# Altium footprint library Buck.PcbLib: 58 footprints (part 3 of 4)
Each footprint in its own frame and in the unit in brackets; x right, y up, seen from the top. Pads: shape width x height; smd on the part's side, far side on the other; paste and mask are expansions set on the pad; w line width, h text height; cw(c..) or ccw(c..) is an arc to the next point about the centre after c.
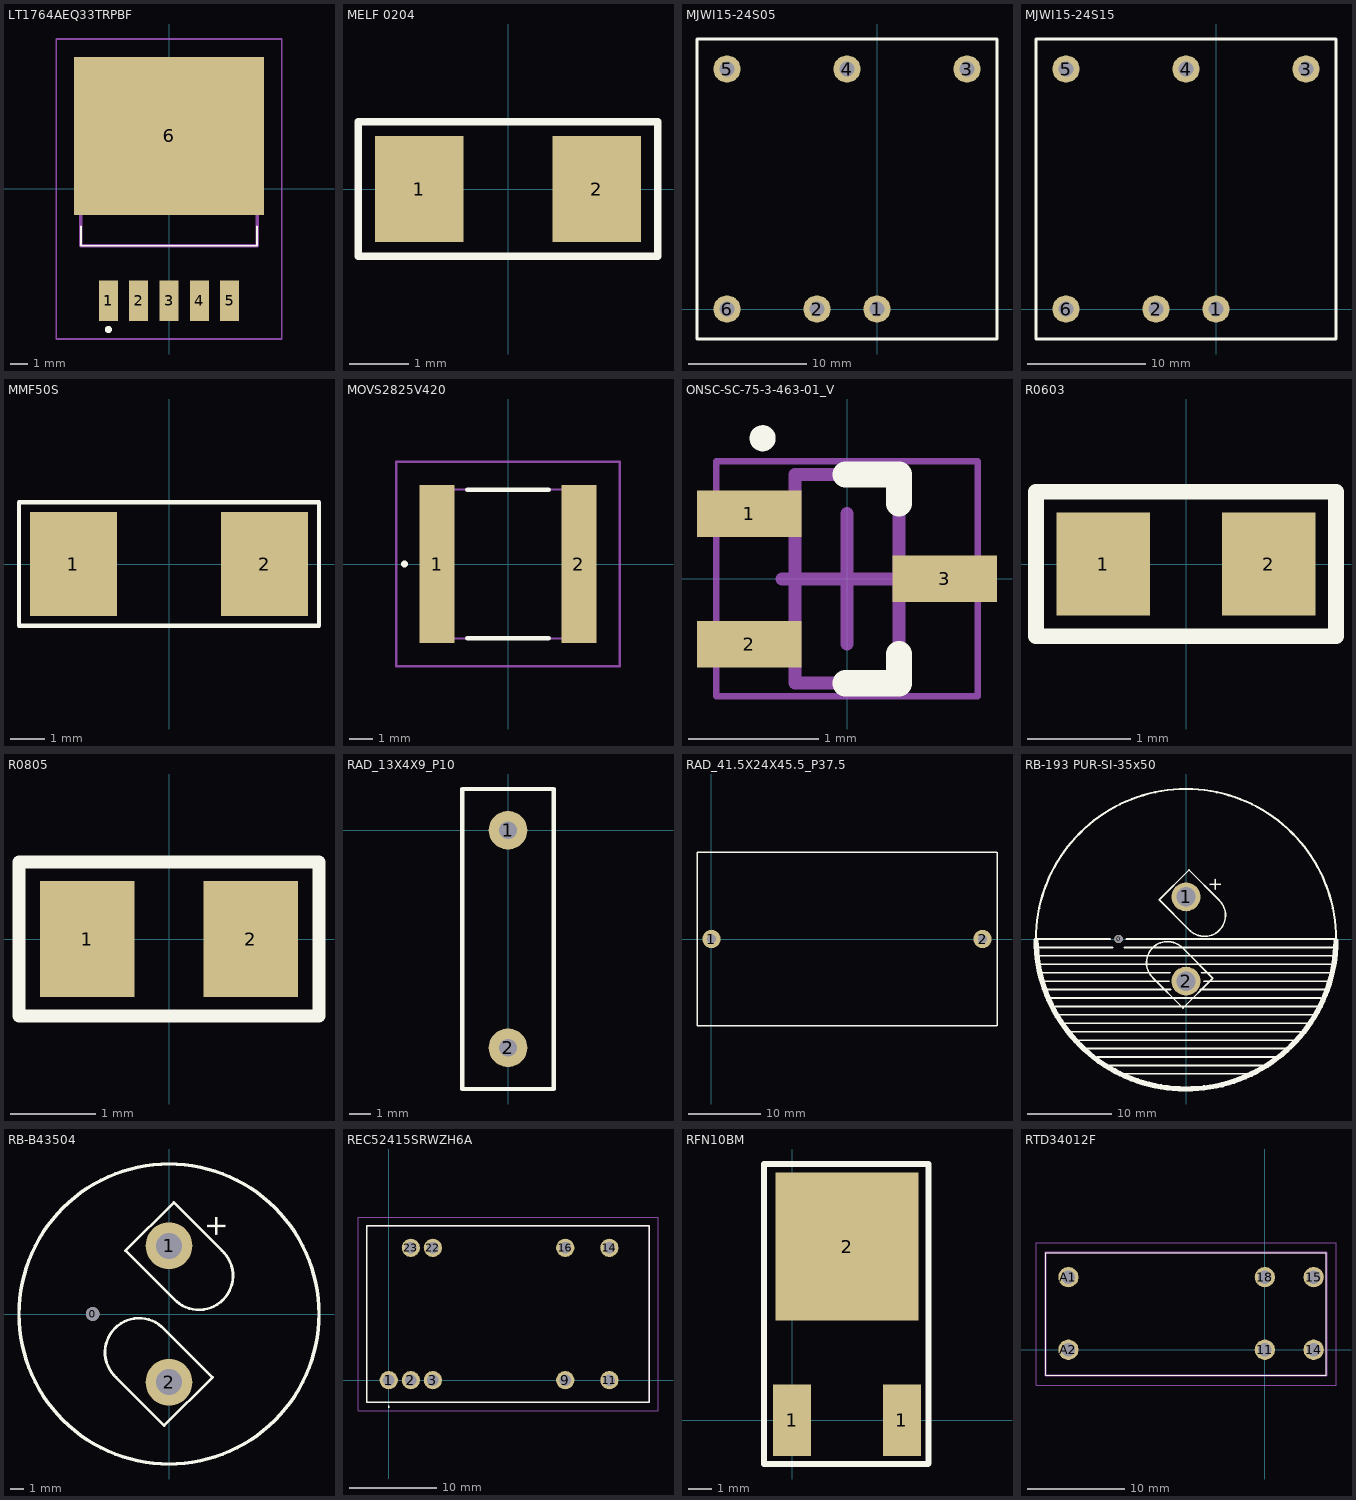
[diagram p2: the footprints below, top view; thin cyan lines are the x and y axes]

## LT1764AEQ33TRPBF [mil]
pads (6):
  rect 42.01x90 smd: 1(-134.02,-247.72) 2(-67.01,-247.72) 3(0,-247.72) 4(67.01,-247.72) 5(134.02,-247.72)
  rect 420x350 smd: 6(0,117.28)
Top Overlay:
  lines w3.94: -195,-82.72 -195,-122.09 -195,-125.98 195,-125.98 195,-82.72
  lines w7.87: -134.02,-315 cw(c-134.02,-311.06) -134.02,-307.13 cw(c-134.02,-311.06) -134.02,-315
Bottom Assembly:
  lines w3.94: -249.37,-332.09 249.37,-332.09 249.37,331.65 -249.37,331.65 -249.37,-332.09
Mechanical 15:
  lines w7.87: -195,-125.98 195,-125.98 195,232.24 -195,232.24 -195,-125.98

## MELF 0204 [mm]
height 13.8
pads (2):
  rect 1.5x1.8 smd: 1(-1.5,0) 2(1.5,0)
Top Overlay:
  lines w0.127: -2.54,-1.143 -2.54,1.143 2.54,1.143 2.54,-1.143 -2.54,-1.143
3D body "CMA02040X1209GB300.stp": height 1.4, standoff 0, extent -1.822,-0.7 1.778,0.7

## MJWI15-24S05 [mm]
pads (6):
  round 2.3 hole 1.3: 1(0,0) 2(-5.08,0) 3(7.62,20.32) 4(-2.54,20.32) 5(-12.7,20.32) 6(-12.7,0)
Top Overlay:
  lines w0.254: -15.24,-2.54 -15.24,22.86 10.16,22.86 10.16,-2.54 -15.24,-2.54

## MJWI15-24S15 [mm]
pads (6):
  round 2.3 hole 1.3: 1(0,0) 2(-5.08,0) 3(7.62,20.32) 4(-2.54,20.32) 5(-12.7,20.32) 6(-12.7,0)
Top Overlay:
  lines w0.254: -15.24,-2.54 10.16,-2.54 10.16,22.86 -15.24,22.86 -15.24,-2.54

## MMF50S [mm]
height 13.8
pads (2):
  rect 2.5x3 smd: 1(-2.75,0) 2(2.75,0)
Top Overlay:
  lines w0.127: -4.318,-1.778 -4.318,1.778 4.318,1.778 4.318,-1.778 -4.318,-1.778

## MOVS2825V420 [mm]
pads (2):
  rect 1.5x6.8 smd: 1(-3.05,0) 2(3.05,0)
Top Overlay:
  lines w0.2: -4.5,0 ccw(c-4.45,0) -4.4,0 ; -4.5,0 cw(c-4.45,0) -4.4,0 ; -4.5,0 ccw(c-4.45,0) -4.4,0 ; -1.75,-3.2 1.75,-3.2 -1.75,-3.2 ; -1.75,3.2 1.75,3.2 -1.75,3.2
Mechanical 15:
  lines w0.1: -3.6,-3.2 -3.6,3.2 3.6,3.2 3.6,-3.2 -3.6,-3.2
Mechanical 20:
  lines w0.1: -4.8,-4.4 -4.8,4.4 4.8,4.4 4.8,-4.4 -4.8,-4.4

## ONSC-SC-75-3-463-01_V [mm] "SOT23, 3-Leads, Body 1.6x0.8mm, Pitch 0.5mm"
height 0.9
pads (3):
  rect 0.8x0.356 smd: 1(-0.75,0.5) 2(-0.75,-0.5) 3(0.75,0)
Top Overlay:
  circle w0.1: c-0.647,1.078 r0.05
  lines w0.2: -0.013,-0.8 0.4,-0.8 0.4,-0.578 ; -0.013,0.8 0.4,0.8 0.4,0.578
Mechanical 13:
  lines w0.1: -0.4,-0.8 0.4,-0.8 0.4,0.8 -0.4,0.8 -0.4,-0.8
Mechanical 15:
  lines w0.05: -1.001,-0.9 1.002,-0.9 1.002,0.9 -1.001,0.9 -1.001,-0.9
  lines w0.1: -0.5,0 0.5,0 ; 0,-0.5 0,0.5
3D body: height 0.9, standoff 0, extent -0.4,-0.8 0.4,0.8

## R0603 [mm] "0603"
pads (2):
  rect 0.9x1 smd: 1(-0.8,0) 2(0.8,0)
Top Overlay:
  lines w0.15: -1.45,-0.7 -1.45,0.7 1.45,0.7 1.45,-0.7 -1.45,-0.7
3D body "SW3dPS-R0603.STEP": height 0.37, standoff 0, extent -0.8,-0.401 0.8,0.401

## R0805 [mm] "0805"
pads (2):
  rect 1.1x1.35 smd: 1(-0.953,0) 2(0.953,0)
Top Overlay:
  lines w0.15: -1.75,-0.9 -1.75,0.9 1.75,0.9 1.75,-0.9 -1.75,-0.9
3D body "SW3dPS-R0805.STEP": height 0.47, standoff 0, extent -1,-0.626 1,0.626

## RAD_13X4X9_P10 [mil]
pads (2):
  round 70 hole 32: 1(0,0) 2(0,-393.7)
Top Overlay:
  lines w8: -82.68,-468.5 82.68,-468.5 82.68,74.8 -82.68,74.8 -82.68,-468.5
3D body "RAD_13.8X4X9_P10.STEP": height 354.33, standoff -196.85, extent -78.74,-468.5 78.74,74.8

## RAD_41.5X24X45.5_P37.5 [mm]
height 29.5
pads (2):
  round 2.54 hole 1.3: 1(0,0) 2(37.5,0)
Top Overlay:
  lines w0.203: -2,-12 39.5,-12 39.5,12 -2,12 -2,-12

## RB-193 PUR-SI-35x50 [mm]
pads (3):
  round 1 hole 1 unplated: 0(-8,0)
  round 3.429 hole 2.3: 1(0,5) 2(0,-5)
Top Overlay:
  circle w0.254: c0,0 r17.8
  lines w0.203: -17.8,-1 -8.7,-1 ; -17.8,0 -9,0 ; -17.5,-4 -1.9,-4 ; -17.4,-3 17.4,-3 ; -17.4,-2 17.4,-2 ; -16.9,-5 -2,-5 ; -16.7,-6 -1.8,-6 ; -16,-7 16,-7 ; -15.5,-8 15.6,-8 ; -15,-9 15,-9 ; -14.5,-10 14.5,-10 ; -13.6,-11 13.6,-11 ; -12.8,-12 12.8,-12 ; -12.2,-13 12.2,-13 ; -10.6,-14 10.6,-14 ; -9.5,-15 9.5,-15 ; -8,-16 8,-16 ; -7.3,-1 17.4,-1 ; -7.1,0 17.8,0 ; -3.889,-4.646 -0.354,-8.182 3.182,-4.646 -0.354,-1.111 ; -3.888,-4.645 cw(c-2.192,-2.808) -0.355,-1.112 ; 0.354,1.111 -3.182,4.646 0.354,8.182 3.889,4.646 ; 0.355,1.112 ccw(c2.192,2.808) 3.888,4.645 ; 1.7,-6 16.7,-6 ; 1.8,-4 17.1,-4 ; 2.1,-5 16.9,-5
  lines w0.635: -17.8,-0.113 ccw(c0,0) 17.799,-0.225
  text "+" at 2.8,7.3 h1.52

## RB-B43504 [mm]
pads (3):
  round 1 hole 1 unplated: 0(-5.6,0)
  round 3.429 hole 1.9: 1(0,5) 2(0,-5)
Top Overlay:
  circle w0.254: c0,0 r11
  lines w0.203: -3.889,-4.646 -0.354,-8.182 3.182,-4.646 -0.354,-1.111 ; -3.888,-4.645 cw(c-2.192,-2.808) -0.355,-1.112 ; 0.354,1.111 -3.182,4.646 0.354,8.182 3.889,4.646 ; 0.355,1.112 ccw(c2.192,2.808) 3.888,4.645
  text "+" at 2.8,7.3 h1.52

## REC52415SRWZH6A [mm]
height 1.22
pads (9):
  round 2.1 hole 1.3: 1(0,0) 2(2.54,0) 3(5.08,0) 9(20.32,0) 11(25.4,0) 14(25.4,15.24) 16(20.32,15.24) 22(5.08,15.24) 23(2.54,15.24)
Top Overlay:
  lines w0.1: 0,-3.1 ccw(c0,-3.05) 0,-3 ccw(c0,-3.05) 0,-3.1
  lines w0.2: -2.54,-2.54 -2.54,17.78 30,17.78 30,-2.54 -2.54,-2.54
Mechanical 15:
  lines w0.1: -2.54,-2.53 -2.54,17.77 30,17.77 30,-2.53 -2.54,-2.53
Mechanical 20:
  lines w0.1: -3.54,-3.54 -3.54,18.78 31,18.78 31,-3.54 -3.54,-3.54
3D body "REC5-2415SRWZ_H6_A_M.stp": height 5.8, standoff -4.65, extent -10,-3.376 10,3.376

## RFN10BM [mm]
pads (3):
  rect 1.6x3 smd: 1(0,0) 1(4.6,0)
  rect 6x6.2 smd: 2(2.3,7.264)
Top Overlay:
  lines w0.25: -1.168,-1.829 5.69,-1.829 5.715,-1.803 5.715,10.719 -1.168,10.719 -1.168,-1.829
3D body "SW3dPS-DPAK-1.STEP": height 2.41, standoff 0, extent -0.97,-0.511 5.57,9.428

## RTD34012F [mm]
pads (6):
  round 2.1 hole 1.4: 11(0,0) 14(5.04,0) 15(5.04,7.5) 18(0,7.5) A1(-20.3,7.5) A2(-20.3,0)
Top Overlay:
  lines w0.1: -22.65,-2.66 -22.65,10.04 6.35,10.04 6.35,-2.66 -22.65,-2.66
Mechanical 15:
  lines w0.2: -22.65,-2.66 -22.65,10.04 6.35,10.04 6.35,-2.66 -22.65,-2.66
Mechanical 20:
  lines w0.1: -23.65,-3.66 -23.65,11.04 7.35,11.04 7.35,-3.66 -23.65,-3.66
3D body "RTD34012F.stp": height 15.8, standoff -5, extent -22.65,-2.66 6.35,10.04